# EAGLE library part TPL7407LAQPWRQ1 (library TPL7407LAQPWRQ1)
30-V, 7-Channel NMOS Array Automotive Low-Side Driver Source: Datasheet <http://www.ti.com/lit/gpn/tpl7407la-q1>
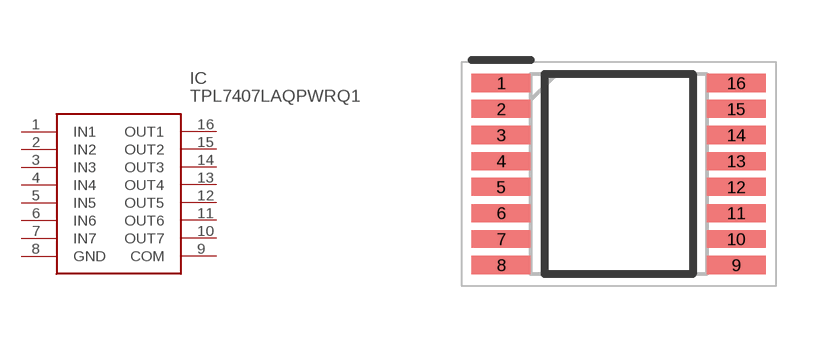
[diagram p0: symbol with the pads of SOP65P640X120-16N; footprint SOP65P640X120-16N]

Designator prefix IC

## TPL7407LAQPWRQ1 (Description: 30-V, 7-Channel NMOS Array Automotive Low-Side Driver; Height: 1.2mm; Manufacturer_Name: Texas Instruments; Manufacturer_Part_Number: TPL7407LAQPWRQ1; Mouser_Part_Number: 595-TPL7407LAQPWRQ1; Mouser_Price-Stock: https://www.mouser.co.uk/ProductDetail/Texas-Instruments/TPL7407LAQPWRQ1?qs=gTYE2QTfZfQmMwRSVe6tfQ%3D%3D)  [SOP65P640X120-16N]
1  IN1
2  IN2
3  IN3
4  IN4
5  IN5
6  IN6
7  IN7
8  GND
9  COM
10  OUT7
11  OUT6
12  OUT5
13  OUT4
14  OUT3
15  OUT2
16  OUT1

## Footprint SOP65P640X120-16N (pad centres in mm)
PW0016A
smd 1.475 x 0.45: 1 -2.938,2.275; 2 -2.938,1.625; 3 -2.938,0.975; 4 -2.938,0.325; 5 -2.938,-0.325; 6 -2.938,-0.975; 7 -2.938,-1.625; 8 -2.938,-2.275; 9 2.938,-2.275; 10 2.938,-1.625; 11 2.938,-0.975; 12 2.938,-0.325; 13 2.938,0.325; 14 2.938,0.975; 15 2.938,1.625; 16 2.938,2.275